# EAGLE library part TDA4565 (library TDA8505)
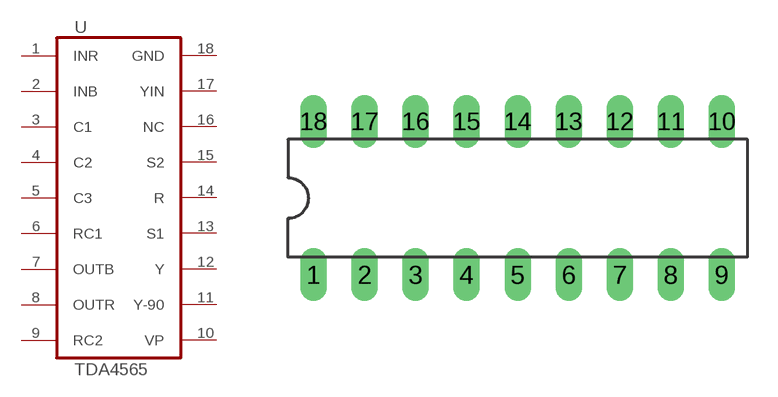
[diagram p1: symbol with the pads of DIL18; footprint DIL18]

Designator prefix -

## TDA4565  [DIL18]
1  INR  in
2  INB  in
3  C1  in
4  C2  in
5  C3  in
6  RC1  in
7  OUTB  in
8  OUTR  in
9  RC2  in
10  VP  hiz
11  Y-90  hiz
12  Y  hiz
13  S1  hiz
14  R  hiz
15  S2  hiz
16  NC  hiz
17  YIN  hiz
18  GND  hiz

## Footprint DIL18 (pad centres in mm)
Dual In Line Package
drill 0.813 long: 1 -10.16,-3.81; 2 -7.62,-3.81; 3 -5.08,-3.81; 4 -2.54,-3.81; 5 0,-3.81; 6 2.54,-3.81; 7 5.08,-3.81; 8 7.62,-3.81; 9 10.16,-3.81; 10 10.16,3.81; 11 7.62,3.81; 12 5.08,3.81; 13 2.54,3.81; 14 0,3.81; 15 -2.54,3.81; 16 -5.08,3.81; 17 -7.62,3.81; 18 -10.16,3.81